# EAGLE library part MAX665 (library Traficon)
Switched-capcitor VOLTAGE CONVERTER
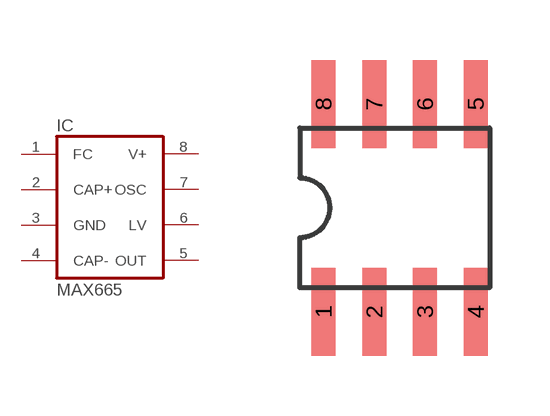
[diagram p136: symbol with the pads of SOIC8; footprint SOIC8]

Designator prefix IC

## MAX665  [SOIC8]
1  FC  pas
2  CAP+
3  GND  pwr
4  CAP-
5  OUT  out
6  LV  pas
7  OSC  out
8  V+  pwr

## Footprint SOIC8 (pad centres in mm)
Small Outline IC
smd 0.6 x 2.2: 1 -1.905,-2.6; 2 -0.635,-2.6; 3 0.635,-2.6; 4 1.905,-2.6; 5 1.905,2.6; 6 0.635,2.6; 7 -0.635,2.6; 8 -1.905,2.6